# EAGLE library part UPD350-* (library Microchip)
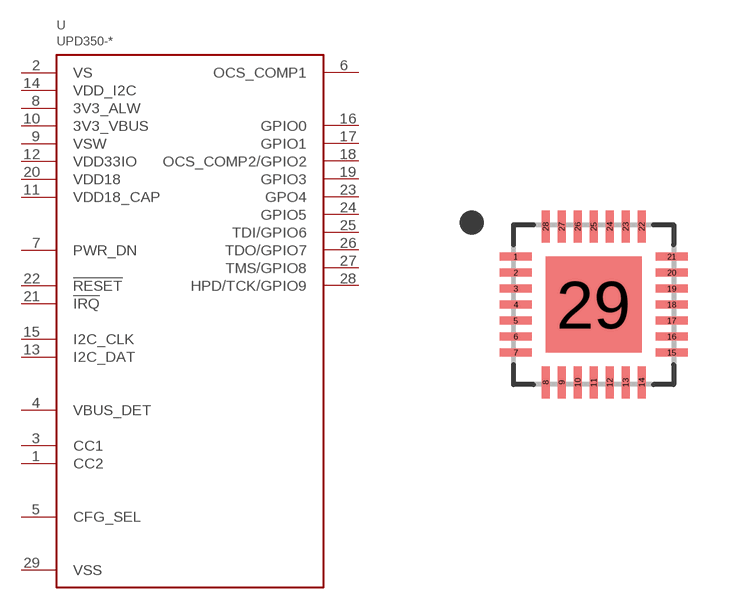
[diagram p44: symbol with the pads of QFN28_0.4P; footprint QFN28_0.4P]

Designator prefix U

## UPD350-A, UPD350-C  [QFN28_0.4P]
1  CC2  in
2  VS  pwr
3  CC1  in
4  VBUS_DET  in
5  CFG_SEL  in
6  OCS_COMP1  in
7  PWR_DN  in
8  3V3_ALW  pwr
9  VSW  pwr
10  3V3_VBUS  pwr
11  VDD18_CAP  pwr
12  VDD33IO  pwr
13  I2C_DAT  in
14  VDD_I2C  pwr
15  I2C_CLK  in
16  GPIO0  in
17  GPIO1  in
18  OCS_COMP2/GPIO2  in
19  GPIO3  in
20  VDD18  pwr
21  !IRQ  in
22  !RESET  in
23  GPO4  in
24  GPIO5  in
25  TDI/GPIO6  in
26  TDO/GPIO7  in
27  TMS/GPIO8  in
28  HPD/TCK/GPIO9  in
29  VSS  pwr

## Footprint QFN28_0.4P (pad centres in mm)
smd 0.8 x 0.2: 1 -1.95,1.2; 2 -1.95,0.8; 3 -1.95,0.4; 4 -1.95,0; 5 -1.95,-0.4; 6 -1.95,-0.8; 7 -1.95,-1.2; 15 1.95,-1.2; 16 1.95,-0.8; 17 1.95,-0.4; 18 1.95,0; 19 1.95,0.4; 20 1.95,0.8; 21 1.95,1.2
smd 0.2 x 0.8: 8 -1.2,-1.95; 9 -0.8,-1.95; 10 -0.4,-1.95; 11 0,-1.95; 12 0.4,-1.95; 13 0.8,-1.95; 14 1.2,-1.95; 22 1.2,1.95; 23 0.8,1.95; 24 0.4,1.95; 25 0,1.95; 26 -0.4,1.95; 27 -0.8,1.95; 28 -1.2,1.95
smd 2.4 x 2.4: 29 0,0